# Altium integrated library Filters.IntLib: 4 symbols
Pins are listed as number, name and electrical type; pins without a type are passive.

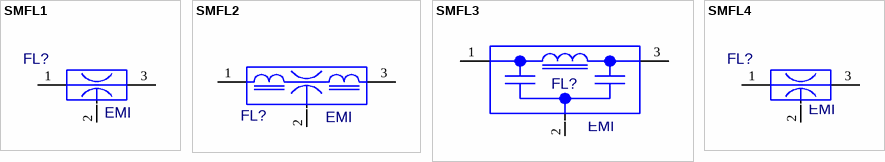
[diagram p0: symbols SMFL1 to SMFL4]

## SMFL1
designator FL?, comment value EMI  (hidden comment: 48667-0011)
Filter, EMI; ECAD_Revision: 3; Librarian: US; PartNumber: 48667-0011; Item: *
footprint SM1205
pins: 1, 2, 3

## SMFL2
designator FL?, comment value EMI  (hidden comment: 48667-0029)
Filter, EMI; ECAD_Revision: 2; Librarian: US; PartNumber: 48667-0029; Item: *
footprint SM2706
pins: 1, 2, 3

## SMFL3
designator FL?, comment value EMI  (hidden comment: 48667-0037)
Filter, EMI; ECAD_Revision: 2; Librarian: US; PartNumber: 48667-0037; Item: *
footprint FL6
pins: 1, 2, 3

## SMFL4
designator FL?, comment value EMI  (hidden comment: TMP_US_SMFL4)
Filter, EMI; ECAD_Revision: 1; Librarian: US; PartNumber: TMP_US_SMFL4; Item: *
footprint 4422
pins: 1, 2, 3